# Altium schematic symbol library flyback_transformer.SchLib: 1 symbol
Pins are listed as number, name and electrical type; pins without a type are passive.

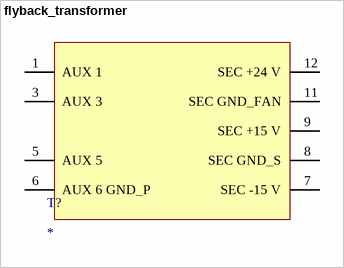
[diagram p0: symbol flyback_transformer]

## flyback_transformer
designator T?
footprint flyback_transformer (750344264-02)
pins: 1 AUX 1, 3 AUX 3, 5 AUX 5, 6 AUX 6 GND_P, 7 SEC -15 V, 8 SEC GND_S, 9 SEC +15 V, 11 SEC GND_FAN, 12 SEC +24 V